# Altium footprint library Header-254-single-horizontal-M.PcbLib: 18 footprints (part 2 of 2)
Each footprint in its own frame and in the unit in brackets; x right, y up, seen from the top. Pads: shape width x height; smd on the part's side, far side on the other; paste and mask are expansions set on the pad; w line width, h text height; cw(c..) or ccw(c..) is an arc to the next point about the centre after c.
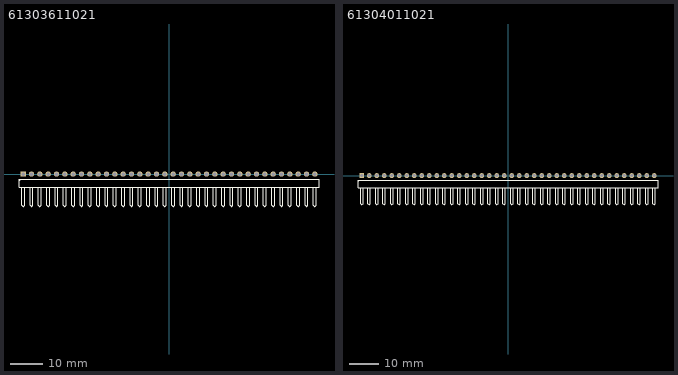
[diagram p1: the footprints below, top view; thin cyan lines are the x and y axes]

## 61303611021 [mm] "36 pins, 1 row, right angled, gold plating"
height 2.54
pads (36):
  rect 1.6x1.6 hole 1.1: 1(-44.45,0)
  round 1.6 hole 1.1: 2(-41.91,0) 3(-39.37,0) 4(-36.83,0) 5(-34.29,0) 6(-31.75,0) 7(-29.21,0) 8(-26.67,0) 9(-24.13,0) 10(-21.59,0) 11(-19.05,0) 12(-16.51,0) 13(-13.97,0) 14(-11.43,0) 15(-8.89,0) 16(-6.35,0) 17(-3.81,0) 18(-1.27,0) 19(1.27,0) 20(3.81,0) 21(6.35,0) 22(8.89,0) 23(11.43,0) 24(13.97,0) 25(16.51,0) 26(19.05,0) 27(21.59,0) 28(24.13,0) 29(26.67,0) 30(29.21,0) 31(31.75,0) 32(34.29,0) 33(36.83,0) 34(39.37,0) 35(41.91,0) 36(44.45,0)
Top Overlay:
  lines w0.2: -45.678,-1.966 -45.254,-1.542 ; -44.873,-4.065 -44.873,-9.459 -44.45,-9.882 -44.027,-9.459 -44.027,-4.04 ; -42.333,-4.065 -42.333,-9.459 -41.91,-9.882 -41.487,-9.459 -41.487,-4.065 ; -39.793,-4.065 -39.793,-9.459 -39.37,-9.882 -38.947,-9.459 -38.947,-4.04 ; -37.253,-4.065 -37.253,-9.459 -36.83,-9.882 -36.407,-9.459 -36.407,-4.065 ; -34.713,-4.065 -34.713,-9.459 -34.29,-9.882 -33.867,-9.459 -33.867,-4.04 ; -32.173,-4.065 -32.173,-9.459 -31.75,-9.882 -31.327,-9.459 -31.327,-4.065 ; -29.633,-4.065 -29.633,-9.459 -29.21,-9.882 -28.787,-9.459 -28.787,-4.04 ; -27.093,-4.065 -27.093,-9.459 -26.67,-9.882 -26.247,-9.459 -26.247,-4.065 ; -24.553,-4.065 -24.553,-9.459 -24.13,-9.882 -23.707,-9.459 -23.707,-4.04 ; -22.013,-4.065 -22.013,-9.459 -21.59,-9.882 -21.167,-9.459 -21.167,-4.065 ; -19.473,-4.065 -19.473,-9.459 -19.05,-9.882 -18.627,-9.459 -18.627,-4.04 ; -16.933,-4.065 -16.933,-9.459 -16.51,-9.882 -16.087,-9.459 -16.087,-4.065 ; -14.393,-4.065 -14.393,-9.459 -13.97,-9.882 -13.547,-9.459 -13.547,-4.04 ; -11.853,-4.065 -11.853,-9.459 -11.43,-9.882 -11.007,-9.459 -11.007,-4.065 ; -9.313,-4.065 -9.313,-9.459 -8.89,-9.882 -8.467,-9.459 -8.467,-4.04 ; -6.773,-4.065 -6.773,-9.459 -6.35,-9.882 -5.927,-9.459 -5.927,-4.065 ; -4.233,-4.065 -4.233,-9.459 -3.81,-9.882 -3.387,-9.459 -3.387,-4.04 ; -1.693,-4.065 -1.693,-9.459 -1.27,-9.882 -0.847,-9.459 -0.847,-4.065 ; 0.847,-4.065 0.847,-9.459 1.27,-9.882 1.693,-9.459 1.693,-4.04 ; 3.387,-4.065 3.387,-9.459 3.81,-9.882 4.233,-9.459 4.233,-4.065 ; 5.927,-4.065 5.927,-9.459 6.35,-9.882 6.773,-9.459 6.773,-4.04 ; 8.467,-4.065 8.467,-9.459 8.89,-9.882 9.313,-9.459 9.313,-4.065 ; 11.007,-4.065 11.007,-9.459 11.43,-9.882 11.853,-9.459 11.853,-4.04 ; 13.547,-4.065 13.547,-9.459 13.97,-9.882 14.393,-9.459 14.393,-4.065 ; 16.087,-4.065 16.087,-9.459 16.51,-9.882 16.933,-9.459 16.933,-4.04 ; 18.627,-4.065 18.627,-9.459 19.05,-9.882 19.473,-9.459 19.473,-4.065 ; 21.167,-4.065 21.167,-9.459 21.59,-9.882 22.013,-9.459 22.013,-4.04 ; 23.707,-4.065 23.707,-9.459 24.13,-9.882 24.553,-9.459 24.553,-4.065 ; 26.247,-4.065 26.247,-9.459 26.67,-9.882 27.093,-9.459 27.093,-4.04 ; 28.787,-4.065 28.787,-9.459 29.21,-9.882 29.633,-9.459 29.633,-4.065 ; 31.327,-4.065 31.327,-9.459 31.75,-9.882 32.173,-9.459 32.173,-4.04 ; 33.867,-4.065 33.867,-9.459 34.29,-9.882 34.713,-9.459 34.713,-4.065 ; 36.407,-4.065 36.407,-9.459 36.83,-9.882 37.253,-9.459 37.253,-4.04 ; 38.947,-4.065 38.947,-9.459 39.37,-9.882 39.793,-9.459 39.793,-4.065 ; 41.487,-4.065 41.487,-9.459 41.91,-9.882 42.333,-9.459 42.333,-4.04 ; 44.027,-4.065 44.027,-9.459 44.45,-9.882 44.873,-9.459 44.873,-4.065 ; -45.72,-4.04 -45.72,-1.5 45.72,-1.5 45.72,-4.04 -45.72,-4.04
3D body "61303611021.stp": height 2.55, standoff -2.99, extent -45.72,-10.064 45.72,0.296

## 61304011021 [mm] "40 pins, 1 row, right angled, gold plating"
height 2.54
pads (40):
  rect 1.6x1.6 hole 1.1: 1(-49.53,0)
  round 1.6 hole 1.1: 2(-46.99,0) 3(-44.45,0) 4(-41.91,0) 5(-39.37,0) 6(-36.83,0) 7(-34.29,0) 8(-31.75,0) 9(-29.21,0) 10(-26.67,0) 11(-24.13,0) 12(-21.59,0) 13(-19.05,0) 14(-16.51,0) 15(-13.97,0) 16(-11.43,0) 17(-8.89,0) 18(-6.35,0) 19(-3.81,0) 20(-1.27,0) 21(1.27,0) 22(3.81,0) 23(6.35,0) 24(8.89,0) 25(11.43,0) 26(13.97,0) 27(16.51,0) 28(19.05,0) 29(21.59,0) 30(24.13,0) 31(26.67,0) 32(29.21,0) 33(31.75,0) 34(34.29,0) 35(36.83,0) 36(39.37,0) 37(41.91,0) 38(44.45,0) 39(46.99,0) 40(49.53,0)
Top Overlay:
  drawing of 165 lines, arcs and shapes, not listed
3D body "61304011021.stp": height 2.55, standoff -2.99, extent -50.8,-10.064 50.8,0.296